# Altium footprint library 2450FB15A050E.PcbLib: 3 footprints
Each footprint in its own frame and in the unit in brackets; x right, y up, seen from the top. Pads: shape width x height; smd on the part's side, far side on the other; paste and mask are expansions set on the pad; w line width, h text height; cw(c..) or ccw(c..) is an arc to the next point about the centre after c.
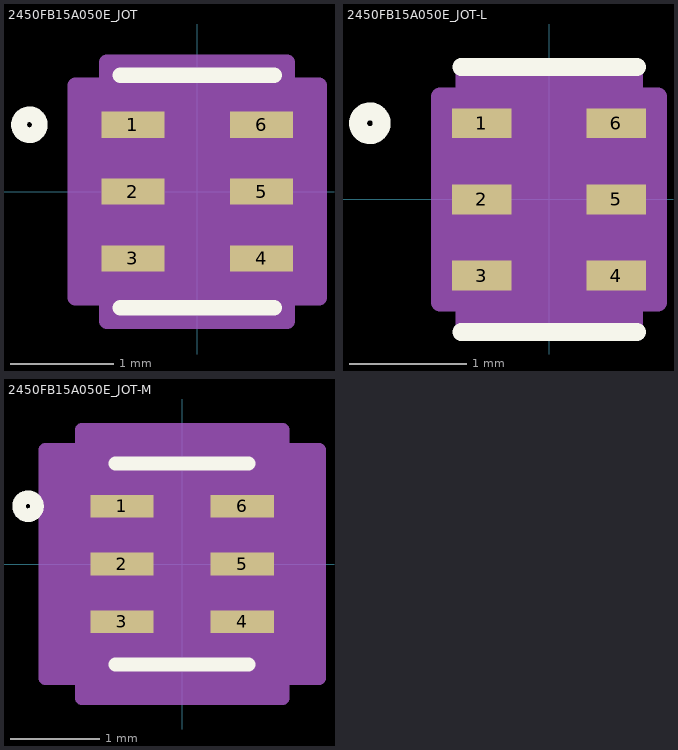
[diagram p0: the footprints below, top view; thin cyan lines are the x and y axes]

## 2450FB15A050E_JOT [mil]
pads (6):
  rect 24x10 smd paste+0 mask+0: 1(-24.61,25.59) 2(-24.61,0) 3(-24.61,-25.59) 4(24.61,-25.59) 5(24.61,0) 6(24.61,25.59)
Top Overlay:
  circle w6: c-64.2,25.59 r4
  lines w6: -29.5,-44.5 29.5,-44.5 ; -29.5,44.5 29.5,44.5
Mechanical 13:
  circle w0: c-12.61,25.59 r3
  lines w0: -12,39.5 ccw(c0,39.5) 12,39.5
  lines w1: -24.5,-39.5 24.5,-39.5 24.5,39.5 -24.5,39.5 -24.5,-39.5
Mechanical 15:
  region: -34.5,-40.59 -46.61,-40.59 -46.61,40.59 -34.5,40.59 -34.5,49.5 34.5,49.5 34.5,40.59 46.61,40.59 46.61,-40.59 34.5,-40.59 34.5,-49.5 -34.5,-49.5
  lines w6: -46.61,-40.59 -46.61,40.59 -34.5,40.59 -34.5,49.5 34.5,49.5 34.5,40.59 46.61,40.59 46.61,-40.59 34.5,-40.59 34.5,-49.5 -34.5,-49.5 -34.5,-40.59 -46.61,-40.59
3D body "2450FB15A050E_JOT.step": height 32.09, standoff 0, extent -24.61,-39.49 24.61,39.49

## 2450FB15A050E_JOT-L [mil]
pads (6):
  rect 20x10 smd paste+0 mask+0: 1(-22.61,25.59) 2(-22.61,0) 3(-22.61,-25.59) 4(22.61,-25.59) 5(22.61,0) 6(22.61,25.59)
Top Overlay:
  circle w6: c-60.2,25.59 r4
  lines w6: -29.5,-44.5 29.5,-44.5 ; -29.5,44.5 29.5,44.5
Mechanical 13:
  circle w0: c-12.61,25.59 r3
  lines w0: -12,39.5 ccw(c0,39.5) 12,39.5
  lines w1: -24.5,-39.5 24.5,-39.5 24.5,39.5 -24.5,39.5 -24.5,-39.5
Mechanical 15:
  region: -28.5,-34.59 -36.61,-34.59 -36.61,34.59 -28.5,34.59 -28.5,43.5 28.5,43.5 28.5,34.59 36.61,34.59 36.61,-34.59 28.5,-34.59 28.5,-43.5 -28.5,-43.5
  lines w6: -36.61,-34.59 -36.61,34.59 -28.5,34.59 -28.5,43.5 28.5,43.5 28.5,34.59 36.61,34.59 36.61,-34.59 28.5,-34.59 28.5,-43.5 -28.5,-43.5 -28.5,-34.59 -36.61,-34.59
3D body "2450FB15A050E_JOT.step": height 32.09, standoff 0, extent -24.61,-39.49 24.61,39.49

## 2450FB15A050E_JOT-M [mil]
pads (6):
  rect 28x10 smd paste+0 mask+0: 1(-26.61,25.59) 2(-26.61,0) 3(-26.61,-25.59) 4(26.61,-25.59) 5(26.61,0) 6(26.61,25.59)
Top Overlay:
  circle w6: c-68.2,25.59 r4
  lines w6: -29.5,-44.5 29.5,-44.5 ; -29.5,44.5 29.5,44.5
Mechanical 13:
  circle w0: c-12.61,25.59 r3
  lines w0: -12,39.5 ccw(c0,39.5) 12,39.5
  lines w1: -24.5,-39.5 24.5,-39.5 24.5,39.5 -24.5,39.5 -24.5,-39.5
Mechanical 15:
  region: -44.5,-50.59 -60.61,-50.59 -60.61,50.59 -44.5,50.59 -44.5,59.5 44.5,59.5 44.5,50.59 60.61,50.59 60.61,-50.59 44.5,-50.59 44.5,-59.5 -44.5,-59.5
  lines w6: -60.61,-50.59 -60.61,50.59 -44.5,50.59 -44.5,59.5 44.5,59.5 44.5,50.59 60.61,50.59 60.61,-50.59 44.5,-50.59 44.5,-59.5 -44.5,-59.5 -44.5,-50.59 -60.61,-50.59
3D body "2450FB15A050E_JOT.step": height 32.09, standoff 0, extent -24.61,-39.49 24.61,39.49